# EAGLE library part 6SL/N7-TT (library radiotubes)
Octal twin triode 6SL7 / 6SN7
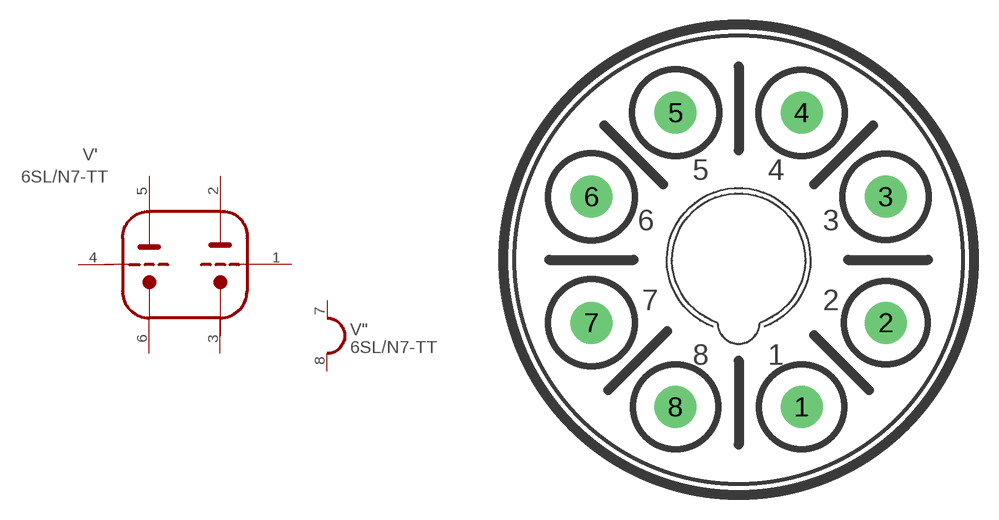
[diagram p149: symbol with the pads of OKTAL; footprint OKTAL]

Designator prefix V; gates '=TWIN-TRIODE "=HEATER_1

## 6SL/N7-TT  [OKTAL]
1  ':GII  pas
2  ':AII  pas
3  ':KII  pas
4  ':GI  pas
5  ':AI  pas
6  ':KI  pas
7  ":H1  pas
8  ":H2  pas

## Footprint OKTAL (pad centres in mm)
drill 1.27 pad 2.54: 1 3.81,-8.89; 2 8.89,-3.81; 3 8.89,3.81; 4 3.81,8.89; 5 -3.81,8.89; 6 -8.89,3.81; 7 -8.89,-3.81; 8 -3.81,-8.89